# Altium schematic symbol library SamacSys.SchLib: 218 symbols (part 2 of 3)
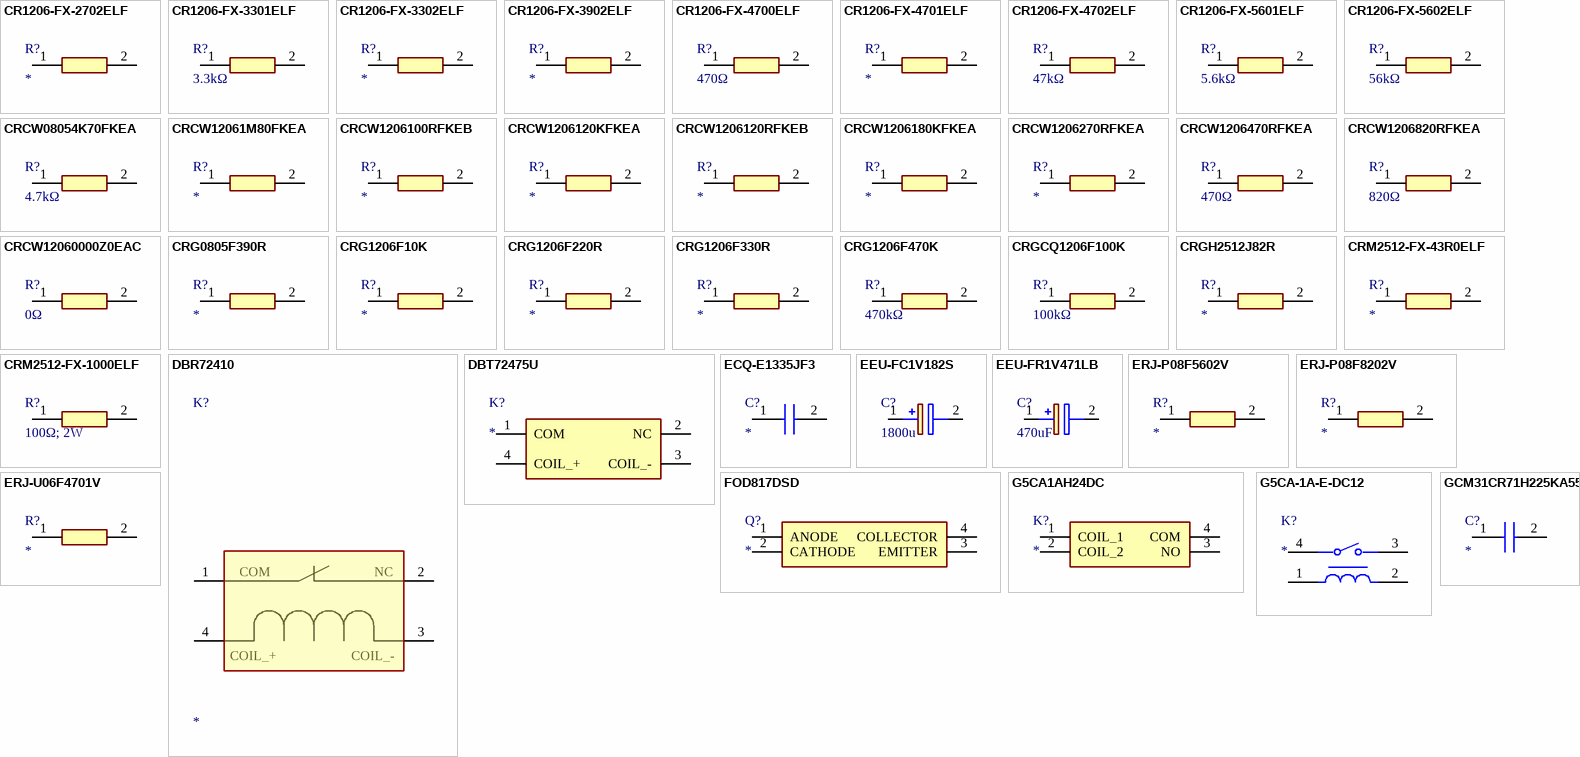
[diagram p7: symbols CR1206-FX-2702ELF to GCM31CR71H225KA55K]

## CRGCQ1206F100K
designator R?, comment 100kΩ
Resistor; Manufacturer_Name: TE Connectivity; Manufacturer_Part_Number: CRGCQ1206F100K; Power Rating: 250mW; Tolerance: 1%; Voltage Rating: 200V; Datasheet Link: https://www.te.com/commerce/DocumentDelivery/DDEController?Action=showdoc&DocId=Data+Sheet%7F1773204-3%7F1%7Fpdf%7FEnglish%7FENG_DS_1773204-3_1.pdf%7F5-2176339-2; Height: 0.65mm; Mouser Part Number: 279-CRGCQ1206F100K; Mouser Price/Stock: https://www.mouser.co.uk/ProductDetail/TE-Connectivity-Holsworthy/CRGCQ1206F100K?qs=wUXugUrL1qxXgwq7s1sDhw%3D%3D; Arrow Part Number: CRGCQ1206F100K; Arrow Price/Stock: https://www.arrow.com/en/products/crgcq1206f100k/te-connectivity; Resistance: 100kΩ; Case Code - in: 1206
footprint RESC3116X65N
pins: 1, 2

## CRGH2512J82R
designator R?
Resistor; Manufacturer_Name: TE Connectivity; Manufacturer_Part_Number: CRGH2512J82R; Datasheet Link: http://docs-europe.electrocomponents.com/webdocs/12d7/0900766b812d7379.pdf; Height: 0.65mm; Mouser Part Number: 279-CRGH2512J82R; Mouser Price/Stock: https://www.mouser.com/Search/Refine.aspx?Keyword=279-CRGH2512J82R
footprint RESC6432X65N
pins: 1, 2

## CRM2512-FX-43R0ELF
designator R?
Resistor; Manufacturer_Name: Bourns; Manufacturer_Part_Number: CRM2512-FX-43R0ELF; Datasheet Link: http://www.bourns.com/data/global/pdfs/CRM0805_1206_2010.pdf; Height: 0.8mm; Mouser Part Number: 652-CRM2512FX43R0ELF; Mouser Price/Stock: https://www.mouser.co.uk/ProductDetail/Bourns/CRM2512-FX-43R0ELF?qs=nU5SFIchPlP%252B4G7B%252BNU8%252Bw%3D%3D
footprint RESC6331X80N
pins: 1, 2

## CRM2512-FX-1000ELF
designator R?, comment 100Ω; 2W
Resistor; Manufacturer_Name: Bourns; Manufacturer_Part_Number: CRM2512-FX-1000ELF; Tolerance: 1%; Voltage Rating: 300V; Datasheet Link: http://www.bourns.com/data/global/pdfs/CRM0805_1206_2010.pdf; Height: 0.8mm; Mouser Part Number: 652-CRM2512FX1000ELF; Mouser Price/Stock: https://www.mouser.co.uk/ProductDetail/Bourns/CRM2512-FX-1000ELF?qs=9fn1gpisni7YMcynedKrEA%3D%3D; Arrow Part Number: CRM2512-FX-1000ELF; Arrow Price/Stock: https://www.arrow.com/en/products/crm2512-fx-1000elf/bourns?region=nac; Resistance: 100Ω; Power_Rating: 2W; Case Code - in: 2512
footprint RESC6331X80N
pins: 1, 2

## DBR72410
designator K?
Relay or Contactor; Manufacturer_Name: Sensata; Manufacturer_Part_Number: DBR72410; Datasheet Link: https://www.cynergy3.com/sites/default/files/cynergy3-d-v3.pdf; Height: 18.5mm; Mouser Part Number: 285-DBR72410; Mouser Price/Stock: https://www.mouser.co.uk/ProductDetail/Cynergy3/DBR72410?qs=OlC7AqGiEDn1L4fp4GHguQ%3D%3D
footprint DBR72410
pins: 1 COM, 2 NC, 3 COIL_-, 4 COIL_+

## DBT72475U
designator K?
Relay or Contactor; Manufacturer_Name: Sensata; Manufacturer_Part_Number: DBT72475U; Datasheet Link: https://www.cynergy3.com/sites/default/files/cynergy3-db-ul-v4.pdf; Height: 18.5mm; Mouser Part Number: 285-DBT72475U; Mouser Price/Stock: https://www.mouser.co.uk/ProductDetail/Cynergy3/DBT72475U?qs=OlC7AqGiEDkQmBWoi1%2FkQA%3D%3D
footprint DBT72475U
pins: 1 COM, 2 NC, 3 COIL_-, 4 COIL_+

## ECQ-E1335JF3
designator C?
Capacitor; Manufacturer_Name: Panasonic; Manufacturer_Part_Number: ECQ-E1335JF3; Datasheet Link: https://industrial.panasonic.com/cdbs/www-data/pdf/RDI0000/ABD0000C179.pdf; Height: 21.5mm; Mouser Part Number: 667-ECQ-E1335JF3; Mouser Price/Stock: https://www.mouser.co.uk/ProductDetail/Panasonic/ECQ-E1335JF3?qs=9ouE0kzBZ2ryz51caMA8VA%3D%3D
footprint ECQE1335JF3
pins: 1, 2

## EEU-FC1V182S
designator C?, comment 1800u
Capacitor Polarised; Manufacturer_Name: Panasonic; Manufacturer_Part_Number: EEU-FC1V182S; Description: Aluminium Electrolytic Capacitor; Voltage Rating: 35VDC; Tolerance: 20%; Datasheet Link: http://industrial.panasonic.com/cdbs/www-data/pdf/RDF0000/ABA0000C1209.pdf; Height: 22mm; Mouser Part Number: 667-EEU-FC1V182S; Mouser Price/Stock: https://www.mouser.co.uk/ProductDetail/Panasonic/EEU-FC1V182S?qs=JDbQaKT4BS1r%252B6D40EM7uw%3D%3D; Capacitance: 1800u
footprint CAPPRD750W85D1800H2200
pins: 1 +, 2 -

## EEU-FR1V471LB
designator C?, comment 470uF
Capacitor Polarised; Manufacturer_Name: Panasonic; Manufacturer_Part_Number: EEU-FR1V471LB; Voltage Rating: 35VDC; Datasheet Link: http://industrial.panasonic.com/cdbs/www-data/pdf/RDF0000/ABA0000C1259.pdf; Height: 22mm; Mouser Part Number: 667-EEU-FR1V471LB; Mouser Price/Stock: https://www.mouser.co.uk/ProductDetail/Panasonic/EEU-FR1V471LB?qs=n1SRcuzDZT29cYaqooxsEQ%3D%3D; Arrow Part Number: EEU-FR1V471LB; Arrow Price/Stock: https://www.arrow.com/en/products/eeu-fr1v471lb/panasonic?region=nac; Capacitance: 470uF
footprint CAPPRD350W65D800H2200
pins: 1 +, 2 -

## ERJ-P08F5602V
designator R?
Resistor; Manufacturer_Name: Panasonic; Manufacturer_Part_Number: ERJ-P08F5602V; Datasheet Link: http://industrial.panasonic.com/cdbs/www-data/pdf/RDO0000/AOA0000C331.pdf; Height: 0.7mm
footprint ERJP08_(1206)
pins: 1, 2

## ERJ-P08F8202V
designator R?
Resistor; Manufacturer_Name: Panasonic; Manufacturer_Part_Number: ERJ-P08F8202V; Datasheet Link: http://industrial.panasonic.com/cdbs/www-data/pdf/RDO0000/AOA0000C331.pdf; Height: 0.7mm; Mouser Part Number: 667-ERJ-P08F8202V; Mouser Price/Stock: https://www.mouser.co.uk/ProductDetail/Panasonic/ERJ-P08F8202V?qs=iIVTEDlrHA3Jr5uiD0YWhw%3D%3D; Arrow Part Number: ERJ-P08F8202V; Arrow Price/Stock: https://www.arrow.com/en/products/erj-p08f8202v/panasonic
footprint ERJP08_(1206)
pins: 1, 2

## ERJ-U06F4701V
designator R?
Resistor; Manufacturer_Name: Panasonic; Manufacturer_Part_Number: ERJ-U06F4701V; Datasheet Link: https://industrial.panasonic.com/cdbs/www-data/pdf/RDP0000/AOA0000C334.pdf; Height: 0.7mm
footprint ERJS06_U06_(0805)
pins: 1, 2

## FOD817DSD
designator Q?
Phototransistor; Manufacturer_Name: onsemi; Manufacturer_Part_Number: FOD817DSD; Datasheet Link: https://www.onsemi.com/pub/Collateral/FOD814-D.PDF; Height: 3.85mm; Mouser Part Number: 512-FOD817DSD; Mouser Price/Stock: https://www.mouser.co.uk/ProductDetail/onsemi-Fairchild/FOD817DSD?qs=VOMQJJE%252BBNlNO0XeTPK9HQ%3D%3D; Arrow Part Number: FOD817DSD; Arrow Price/Stock: https://www.arrow.com/en/products/fod817dsd/on-semiconductor?region=nac
footprint SOP254P1016X385-4N
pins: 1 ANODE, 2 CATHODE, 3 EMITTER, 4 COLLECTOR

## G5CA1AH24DC
designator K?
Relay or Contactor; Manufacturer_Name: Omron Electronics; Manufacturer_Part_Number: G5CA1AH24DC; Datasheet Link: https://componentsearchengine.com/Datasheets/2/G5CA1AH24DC.pdf; Height: 11mm; Arrow Part Number: G5CA1AH24DC; Arrow Price/Stock: https://www.arrow.com/en/products/g5ca1ah24dc/omron
footprint G5CA1AH24DC
pins: 1 COIL_1, 2 COIL_2, 3 NO, 4 COM

## G5CA-1A-E-DC12
designator K?
Relay or Contactor; Manufacturer_Name: Omron Electronics; Manufacturer_Part_Number: G5CA-1A-E-DC12; Datasheet Link: https://omronfs.omron.com/en_US/ecb/products/pdf/en-g5ca.pdf; Height: 11mm; Mouser Part Number: 653-G5CA-1A-E-DC12; Mouser Price/Stock: https://www.mouser.co.uk/ProductDetail/Omron-Electronics/G5CA-1A-E-DC12?qs=FGnoE8EzQws3vkoxHieQCg%3D%3D
footprint G5CA1AEDC24
pins: 1, 2, 3, 4

## GCM31CR71H225KA55K
designator C?
Capacitor; Manufacturer_Name: Murata Electronics; Manufacturer_Part_Number: GCM31CR71H225KA55K; Datasheet Link: https://psearch.en.murata.com/capacitor/product/GCM31CR71H225KA55%23.html; Height: 1.8mm; Mouser Part Number: 81-GCM31CR71H225KA5K; Mouser Price/Stock: https://www.mouser.co.uk/ProductDetail/Murata-Electronics/GCM31CR71H225KA55K?qs=Er06SXQpt%252B4Wl7IFhiz7sg%3D%3D; Arrow Part Number: GCM31CR71H225KA55K; Arrow Price/Stock: https://www.arrow.com/en/products/gcm31cr71h225ka55k/murata-manufacturing?region=nac
footprint CAPC3116X180N
pins: 1, 2

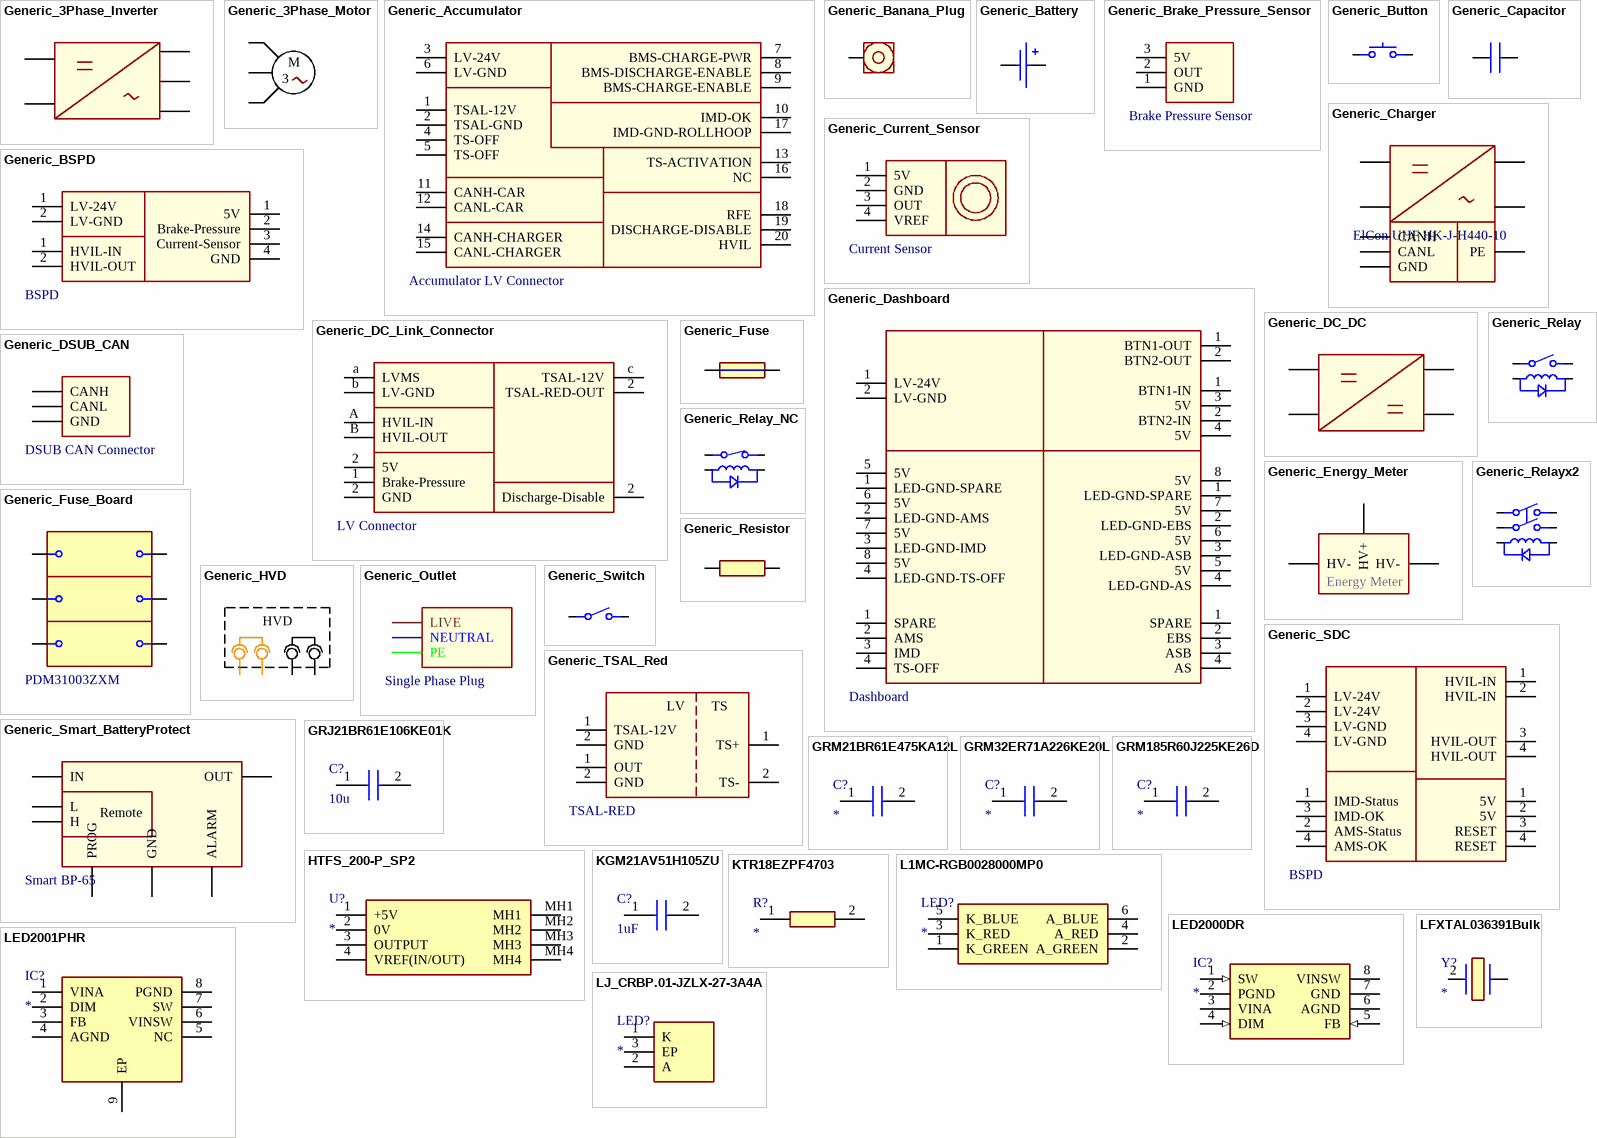
[diagram p3: symbols Generic_3Phase_Inverter to LJ_CRBP.01-JZLX-27-3A4A]

## Generic_3Phase_Inverter
designator *  (value not drawn)
pins: ?1, ?2, ?3, ?4, ?5

## Generic_3Phase_Motor
designator *  (value not drawn)
pins: ?1, ?2, ?3
text: M; 3

## Generic_Accumulator
designator *, comment Accumulator LV Connector
pins: 1 TSAL-12V, 2 TSAL-GND, 3 LV-24V, 4 TS-OFF, 5 TS-OFF, 6 LV-GND, 7 BMS-CHARGE-PWR, 8 BMS-DISCHARGE-ENABLE, 9 BMS-CHARGE-ENABLE, 10 IMD-OK, 11 CANH-CAR, 12 CANL-CAR, 13 TS-ACTIVATION, 14 CANH-CHARGER, 15 CANL-CHARGER, 16 NC, 17 IMD-GND-ROLLHOOP, 18 RFE, 19 DISCHARGE-DISABLE, 20 HVIL

## Generic_Banana_Plug
designator *, comment Banana-Plug  (value not drawn)
pins: *

## Generic_Battery
designator *  (value not drawn)
pins: ?1, ?2

## Generic_Brake_Pressure_Sensor
designator *, comment Brake Pressure Sensor
pins: 1 GND, 2 OUT, 3 5V

## Generic_BSPD
designator *, comment BSPD
pins: 1 5V, 1 HVIL-IN, 1 LV-24V, 2 Brake-Pressure, 2 HVIL-OUT, 2 LV-GND, 3 Current-Sensor, 4 GND

## Generic_Button
designator *  (value not drawn)
pins: ?1, ?2

## Generic_Capacitor
designator *  (value not drawn)
pins: ?1, ?2

## Generic_Charger
designator *, comment ElCon UHF HK-J-H440-10
pins: ?1, ?2, ?3, ?4, ?5 CANH, ?6 CANL, ?7 GND, ?8 PE

## Generic_Current_Sensor
designator *, comment Current Sensor
pins: 1 5V, 2 GND, 3 OUT, 4 VREF

## Generic_Dashboard
designator *, comment Dashboard
pins: 1 SPARE, 1 SPARE, 1 LED-GND-SPARE, 1 LED-GND-SPARE, 1 BTN1-IN, 1 LV-24V, 1 BTN1-OUT, 2 AMS, 2 EBS, 2 LED-GND-AMS, 2 LED-GND-EBS, 2 BTN2-IN, 2 LV-GND, 2 BTN2-OUT, 3 IMD, 3 ASB, 3 LED-GND-IMD, 3 LED-GND-ASB, 3 5V, 4 TS-OFF, 4 AS, 4 LED-GND-TS-OFF, 4 LED-GND-AS, 4 5V, 5 5V, 5 5V, 6 5V, 6 5V, 7 5V, 7 5V, 8 5V, 8 5V

## Generic_DC_DC
designator *  (value not drawn)
pins: ?1, ?2, ?3, ?4

## Generic_DC_Link_Connector
designator *, comment LV Connector
pins: 1 Brake-Pressure, 2 5V, 2 TSAL-RED-OUT, 2 Discharge-Disable, 2 GND, a LVMS, A HVIL-IN, b LV-GND, B HVIL-OUT, c TSAL-12V

## Generic_DSUB_CAN
designator *, comment DSUB CAN Connector
pins: ?1 CANH, ?2 GND, ?3 CANL

## Generic_Energy_Meter
designator *  (value not drawn)
pins: ?1 HV-, ?2 HV-, ?3 HV+
text: Energy Meter

## Generic_Fuse
designator *  (value not drawn)
pins: ?1, ?2

## Generic_Fuse_Board
designator *, comment PDM31003ZXM
pins: ?1, ?2, ?3, ?4, ?5, ?6

## Generic_HVD
designator *  (value not drawn)
pins: ?1, ?2, ?3, ?4
text: HVD

## Generic_Outlet
designator *, comment Single Phase Plug
pins: ?1 LIVE, ?2 PE, ?3 NEUTRAL

## Generic_Relay
designator *  (value not drawn)
pins: ?1, ?2, ?3, ?4

## Generic_Relay_NC
designator *  (value not drawn)
pins: ?1, ?2, ?3, ?4

## Generic_Relayx2
designator *  (value not drawn)
pins: ?1, ?2, ?3, ?4, ?5, ?6

## Generic_Resistor
designator *  (value not drawn)
pins: ?1, ?2

## Generic_SDC
designator *, comment BSPD
pins: 1 IMD-Status, 1 5V, 1 HVIL-IN, 1 LV-24V, 2 AMS-Status, 2 5V, 2 HVIL-IN, 2 LV-24V, 3 IMD-OK, 3 RESET, 3 HVIL-OUT, 3 LV-GND, 4 AMS-OK, 4 RESET, 4 HVIL-OUT, 4 LV-GND

## Generic_Smart_BatteryProtect
designator *, comment Smart BP-65
pins: ?1 IN, ?2 PROG, ?3 OUT, ?4 GND, ?5 ALARM, ?6 L, ?7 H
text: Remote

## Generic_Switch
designator *  (value not drawn)
pins: ?1, ?2

## Generic_TSAL_Red
designator *, comment TSAL-RED
pins: 1 TS+, 1 TSAL-12V, 1 OUT, 2 TS-, 2 GND, 2 GND
text: LV; TS

## GRJ21BR61E106KE01K
designator C?, comment 10u
Capacitor; Manufacturer_Name: Murata Electronics; Manufacturer_Part_Number: GRJ21BR61E106KE01K; Voltage Rating: 25VDC; Tolerance: 10%; Datasheet Link: https://search.murata.co.jp/Ceramy/image/img/A01X/G101/ENG/GRJ21BR61E106KE01-02A.pdf; Height: 1.45mm; Mouser Part Number: 81-GRJ21BR61E106KE1K; Mouser Price/Stock: https://www.mouser.co.uk/ProductDetail/Murata-Electronics/GRJ21BR61E106KE01K?qs=5aG0NVq1C4w0N7mxlKMI2A%3D%3D; Arrow Part Number: GRJ21BR61E106KE01K; Arrow Price/Stock: https://www.arrow.com/en/products/grj21br61e106ke01k/murata-manufacturing?region=nac; Capacitance: 10u; Case Code - in: 0805
footprint CAPC2012X145N
pins: 1, 2

## GRM21BR61E475KA12L
designator C?
Capacitor; Manufacturer_Name: Murata Electronics; Manufacturer_Part_Number: GRM21BR61E475KA12L; Datasheet Link: http://www.murata.com/~/media/webrenewal/support/library/catalog/products/capacitor/mlcc/c02e.pdf; Height: 1.45mm; Mouser Part Number: 81-GRM21BR61E475KA12; Mouser Price/Stock: https://www.mouser.co.uk/ProductDetail/Murata-Electronics/GRM21BR61E475KA12L?qs=0E7Ycue1i8A0OYXyRL9B%252Bw%3D%3D; Arrow Part Number: GRM21BR61E475KA12L; Arrow Price/Stock: https://www.arrow.com/en/products/grm21br61e475ka12l/murata-manufacturing
footprint CAPC2012X145N
pins: 1, 2

## GRM32ER71A226KE20L
designator C?
Capacitor; Manufacturer_Name: Murata Electronics; Manufacturer_Part_Number: GRM32ER71A226KE20L; Datasheet Link: http://psearch.en.murata.com/capacitor/product/GRM32ER71E226KE15%23.pdf; Height: 2.7mm; Mouser Part Number: 81-GRM32R71A226KE20L; Mouser Price/Stock: https://www.mouser.co.uk/ProductDetail/Murata-Electronics/GRM32ER71A226KE20L?qs=IjyrXs0Hof%252B8BiTJdBCHXw%3D%3D; Arrow Part Number: GRM32ER71A226KE20L; Arrow Price/Stock: https://www.arrow.com/en/products/grm32er71a226ke20l/murata-manufacturing?region=nac
footprint CAPC3225X270N
pins: 1, 2

## GRM185R60J225KE26D
designator C?
Capacitor; Manufacturer_Name: Murata Electronics; Manufacturer_Part_Number: GRM185R60J225KE26D; Datasheet Link: http://search.murata.co.jp/Ceramy/image/img/A01X/G101/ENG/GRM185R60J225KE26-01A.pdf; Height: 0.5mm; Mouser Part Number: 81-GRM185R60J225KE26; Mouser Price/Stock: https://www.mouser.co.uk/ProductDetail/Murata-Electronics/GRM185R60J225KE26D?qs=NwqPE0KKkjFbMAjoSSw5eQ%3D%3D; Arrow Part Number: GRM185R60J225KE26D; Arrow Price/Stock: https://www.arrow.com/en/products/grm185r60j225ke26d/murata-manufacturing
footprint CAPC1608X50N
pins: 1, 2

## HTFS_200-P_SP2
designator U?
Undefined or Miscellaneous; Manufacturer_Name: LEM; Manufacturer_Part_Number: HTFS 200-P/SP2; Datasheet Link: https://www.lem.com/sites/default/files/products_datasheets/htfs_200_800-p_sp2.pdf; Height: 17.2mm
footprint HTFS200PSP2
pins: 1 +5V, 2 0V, 3 OUTPUT, 4 VREF(IN/OUT), MH1, MH2, MH3, MH4

## KGM21AV51H105ZU
designator C?, comment 1uF
Capacitor; Manufacturer_Name: Kyocera AVX; Manufacturer_Part_Number: KGM21AV51H105ZU; Voltage Rating: 25VDC; Tolerance: 10%; Datasheet Link: https://www.mouser.com/datasheet/2/40/KGM_Y5V-3223189.pdf; Height: 1.45mm; Capacitance: 1uF; Case Code - in: 0805
footprint CAPC2012X145N
pins: 1, 2

## KTR18EZPF4703
designator R?
Resistor; Manufacturer_Name: ROHM Semiconductor; Manufacturer_Part_Number: KTR18EZPF4703; Datasheet Link: http://rohmfs.rohm.com/en/products/databook/datasheet/passive/resistor/chip_resistor/ktr.pdf; Height: 0.65mm; Mouser Part Number: 755-KTR18EZPF4703; Mouser Price/Stock: https://www.mouser.co.uk/ProductDetail/ROHM-Semiconductor/KTR18EZPF4703?qs=DyUWGjl%252BcVvRINWzBHCu3w%3D%3D
footprint RESC3216X65N
pins: 1, 2

## L1MC-RGB0028000MP0
designator LED?
LED; Manufacturer_Name: Lumileds; Manufacturer_Part_Number: L1MC-RGB0028000MP0; Datasheet Link: https://lumileds.com/wp-content/uploads/2022/03/DS388-luxeon-3528-rgb-datasheet.pdf; Height: 1.85mm; Mouser Part Number: 997-L1MCRGB00280MP; Mouser Price/Stock: https://www.mouser.co.uk/ProductDetail/Lumileds/L1MC-RGB0028000MP0?qs=Znm5pLBrcAJSGF05jr80lQ%3D%3D; Arrow Part Number: L1MC-RGB0028000MP0; Arrow Price/Stock: https://www.arrow.com/en/products/l1mc-rgb0028000mp0/lumileds?region=nac
footprint L1MCRGB0028000MP0
pins: 1 K_GREEN, 2 A_GREEN, 3 K_RED, 4 A_RED, 5 K_BLUE, 6 A_BLUE

## LED2000DR
designator IC?
Integrated Circuit; Manufacturer_Name: STMicroelectronics; Manufacturer_Part_Number: LED2000DR; Datasheet Link: https://componentsearchengine.com/Datasheets/2/LED2000DR.pdf; Height: 1.75mm; Mouser Part Number: 511-LED2000DR; Mouser Price/Stock: https://www.mouser.co.uk/ProductDetail/STMicroelectronics/LED2000DR?qs=19rwF8CI%252BwkZyr%252B18P3SIw%3D%3D; Arrow Part Number: LED2000DR; Arrow Price/Stock: https://www.arrow.com/en/products/led2000dr/stmicroelectronics?region=nac
footprint SOIC127P600X175-8N
pins: 1 SW (in), 2 PGND (power), 3 VINA (power), 4 DIM (in), 5 FB (in), 6 AGND (power), 7 GND (power), 8 VINSW (power)

## LED2001PHR
designator IC?
Integrated Circuit; Manufacturer_Name: STMicroelectronics; Manufacturer_Part_Number: LED2001PHR; Datasheet Link: http://www.st.com/web/en/resource/technical/document/datasheet/DM00079085.pdf; Height: 1.75mm; Mouser Part Number: 511-LED2001PHR; Mouser Price/Stock: https://www.mouser.co.uk/ProductDetail/STMicroelectronics/LED2001PHR?qs=WHlX%252B%252B9%2FRwCzdGFG7EvhjQ%3D%3D; Arrow Part Number: LED2001PHR; Arrow Price/Stock: https://www.arrow.com/en/products/led2001phr/stmicroelectronics?region=nac
footprint SOIC127P600X175-9N
pins: 1 VINA, 2 DIM, 3 FB, 4 AGND, 5 NC, 6 VINSW, 7 SW, 8 PGND, 9 EP

## LFXTAL036391Bulk
designator Y?
Crystal or Oscillator; Manufacturer_Name: IQD; Manufacturer_Part_Number: LFXTAL036391Bulk; Datasheet Link: https://componentsearchengine.com/Datasheets/1/LFXTAL036391Bulk.pdf; Height: 4.1mm; Mouser Part Number: 449-LFXTAL036391BULK; Mouser Price/Stock: https://www.mouser.co.uk/ProductDetail/IQD/LFXTAL036391Bulk?qs=e4%2FAndAAwgLVSm%2FKWOsYLg%3D%3D
footprint LFXTAL036391Bulk
pins: 2 CRYSTAL_2, ?1

## LJ_CRBP.01-JZLX-27-3A4A
designator LED?
LED; Manufacturer_Name: AMS OSRAM GROUP; Manufacturer_Part_Number: LJ CRBP.01-JZLX-27-3A4A; Datasheet Link: https://look.ams-osram.com/m/52bae5cfb8626588/original/LJ-CRBP-01.pdf; Height: 2.24mm; Mouser Part Number: 720-LJCRBP01JZA9260; Mouser Price/Stock: https://www.mouser.co.uk/ProductDetail/ams-OSRAM/LJ-CRBP.01-JZLX-27-3A4A?qs=vvQtp7zwQdO%252B1A3QlQcixg%3D%3D
footprint LJCRBP01JZLX273A4A
pins: 1 K, 2 A, 3 EP

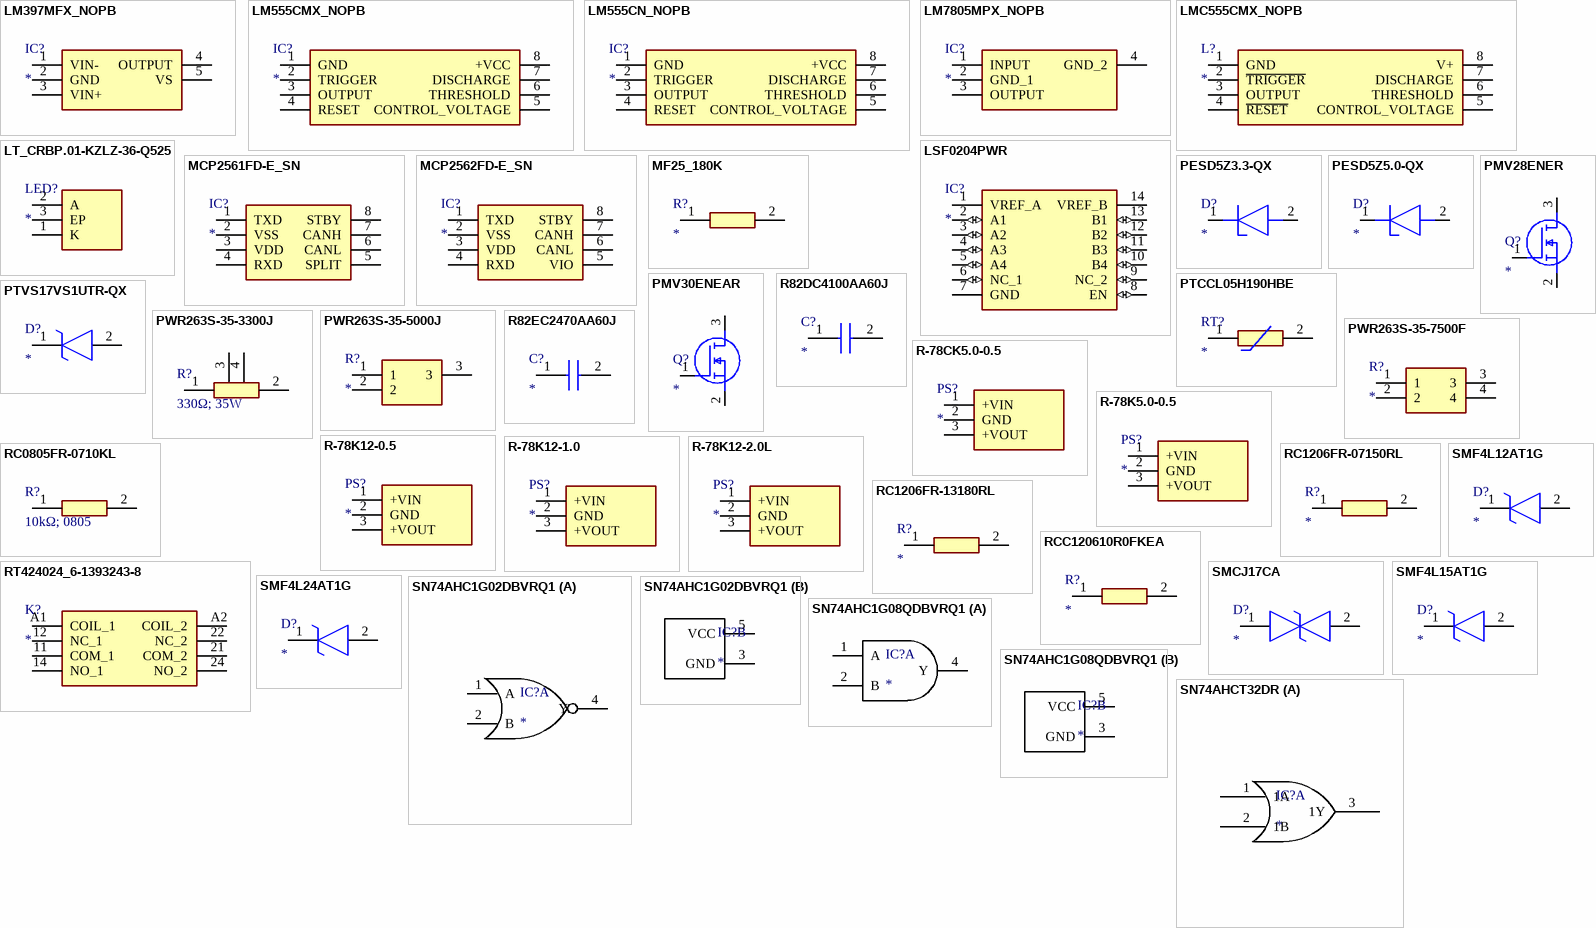
[diagram p4: symbols LM397MFX_NOPB to SN74AHCT32DR]

## LM397MFX_NOPB
designator IC?
Integrated Circuit; Manufacturer_Name: Texas Instruments; Manufacturer_Part_Number: LM397MFX/NOPB; Datasheet Link: http://www.ti.com/lit/gpn/lm397; Height: 1.45mm; Mouser Part Number: 926-LM397MFX/NOPB; Mouser Price/Stock: https://www.mouser.co.uk/ProductDetail/Texas-Instruments/LM397MFX-NOPB?qs=QbsRYf82W3H8K8J%252BcL5lDg%3D%3D; Arrow Part Number: LM397MFX/NOPB; Arrow Price/Stock: https://www.arrow.com/en/products/lm397mfxnopb/texas-instruments?region=nac
footprint SOT95P280X145-5N
pins: 1 VIN-, 2 GND, 3 VIN+, 4 OUTPUT, 5 VS

## LM555CMX_NOPB
designator IC?
Integrated Circuit; Manufacturer_Name: Texas Instruments; Manufacturer_Part_Number: LM555CMX/NOPB; Datasheet Link: http://www.ti.com/lit/ds/symlink/lm555.pdf; Height: 1.75mm; Mouser Part Number: 926-LM555CMX/NOPB; Mouser Price/Stock: https://www.mouser.co.uk/ProductDetail/Texas-Instruments/LM555CMX-NOPB?qs=QbsRYf82W3GHnQuoL%2FmIoA%3D%3D; Arrow Part Number: LM555CMX/NOPB; Arrow Price/Stock: https://www.arrow.com/en/products/lm555cmxnopb/texas-instruments?region=nac
footprint SOIC127P600X175-8N
pins: 1 GND, 2 TRIGGER, 3 OUTPUT, 4 RESET, 5 CONTROL_VOLTAGE, 6 THRESHOLD, 7 DISCHARGE, 8 +VCC

## LM555CN_NOPB
designator IC?
Integrated Circuit; Manufacturer_Name: Texas Instruments; Manufacturer_Part_Number: LM555CN/NOPB; Datasheet Link: https://datasheet.datasheetarchive.com/originals/distributors/Datasheets-SFU2/DSASFU100035550.pdf; Height: 5.08mm; Mouser Part Number: 926-LM555CN/NOPB; Mouser Price/Stock: https://www.mouser.co.uk/ProductDetail/Texas-Instruments/LM555CN-NOPB?qs=QbsRYf82W3GjZpQL%2FakZOg%3D%3D; Arrow Part Number: LM555CN/NOPB; Arrow Price/Stock: https://www.arrow.com/en/products/lm555cnnopb/texas-instruments?region=nac
footprint DIP794W53P254L959H508Q8N
pins: 1 GND, 2 TRIGGER, 3 OUTPUT, 4 RESET, 5 CONTROL_VOLTAGE, 6 THRESHOLD, 7 DISCHARGE, 8 +VCC

## LM7805MPX_NOPB
designator IC?
Integrated Circuit; Manufacturer_Name: Texas Instruments; Manufacturer_Part_Number: LM7805MPX/NOPB; Datasheet Link: https://www.arrow.com/en/products/lm7805mpxnopb/texas-instruments; Height: 1.8mm; Mouser Part Number: 595-LM7805MPX/NOPB; Mouser Price/Stock: https://www.mouser.co.uk/ProductDetail/Texas-Instruments/LM7805MPX-NOPB?qs=gO6GG99qvRCSwIVAoVKHPw%3D%3D; Arrow Part Number: LM7805MPX/NOPB; Arrow Price/Stock: https://www.arrow.com/en/products/lm7805mpxnopb/texas-instruments?region=nac
footprint SOT230P700X180-4N
pins: 1 INPUT, 2 GND_1, 3 OUTPUT, 4 GND_2

## LMC555CMX_NOPB
designator L?
Inductor; Manufacturer_Name: Texas Instruments; Manufacturer_Part_Number: LMC555CMX/NOPB; Datasheet Link: http://www.ti.com/lit/gpn/lmc555; Height: 1.75mm; Mouser Part Number: 926-LMC555CMX/NOPB; Mouser Price/Stock: https://www.mouser.co.uk/ProductDetail/Texas-Instruments/LMC555CMX-NOPB?qs=QbsRYf82W3EweY0jkZCQRw%3D%3D; Arrow Part Number: LMC555CMX/NOPB; Arrow Price/Stock: https://www.arrow.com/en/products/lmc555cmxnopb/texas-instruments?region=nac
footprint SOIC127P600X175-8N
pins: 1 GND (power), 2 ~{TRIGGER}, 3 OUTPUT, 4 ~{RESET}, 5 CONTROL_VOLTAGE, 6 THRESHOLD, 7 DISCHARGE, 8 V+ (power)

## LSF0204PWR
designator IC?
Integrated Circuit; Manufacturer_Name: Texas Instruments; Manufacturer_Part_Number: LSF0204PWR; Datasheet Link: http://www.ti.com/lit/gpn/lsf0204; Height: 1.2mm; Mouser Part Number: 595-LSF0204PWR; Mouser Price/Stock: https://www.mouser.co.uk/ProductDetail/Texas-Instruments/LSF0204PWR?qs=m%2F7bTylgptck0MkFZrWcVg%3D%3D; Arrow Part Number: LSF0204PWR; Arrow Price/Stock: https://www.arrow.com/en/products/lsf0204pwr/texas-instruments?region=nac
footprint SOP65P640X120-14N
pins: 1 VREF_A (power), 2 A1 (io), 3 A2 (io), 4 A3 (io), 5 A4 (io), 6 NC_1 (io), 7 GND (power), 8 EN (io), 9 NC_2 (io), 10 B4 (io), 11 B3 (io), 12 B2 (io), 13 B1 (io), 14 VREF_B (power)

## LT_CRBP.01-KZLZ-36-Q525
designator LED?
LED; Manufacturer_Name: AMS OSRAM GROUP; Manufacturer_Part_Number: LT CRBP.01-KZLZ-36-Q525; Datasheet Link: https://dammedia.osram.info/media/resource/hires/osram-dam-16811693/LT%20CRBP.01_EN.pdf; Height: 2.14mm; Mouser Part Number: 720-LTCRBP01KZA9257; Mouser Price/Stock: https://www.mouser.co.uk/ProductDetail/ams-OSRAM/LT-CRBP.01-KZLZ-36-Q525?qs=vvQtp7zwQdPcep%252BoQtfHxA%3D%3D
footprint LTCRBP01KZLZ36Q525
pins: 1 K, 2 A, 3 EP

## MCP2561FD-E_SN
designator IC?
Integrated Circuit; Manufacturer_Name: Microchip; Manufacturer_Part_Number: MCP2561FD-E/SN; Datasheet Link: http://ww1.microchip.com/downloads/en/DeviceDoc/20005284A.pdf; Height: 1.75mm; Mouser Part Number: 579-MCP2561FD-E/SN; Mouser Price/Stock: https://www.mouser.co.uk/ProductDetail/Microchip-Technology-Atmel/MCP2561FD-E-SN?qs=YlpJWyuQ3POCoip84joIDQ%3D%3D; Arrow Part Number: MCP2561FD-E/SN; Arrow Price/Stock: https://www.arrow.com/en/products/mcp2561fd-esn/microchip-technology?region=nac
footprint SOIC127P600X175-8N
pins: 1 TXD, 2 VSS, 3 VDD, 4 RXD, 5 SPLIT, 6 CANL, 7 CANH, 8 STBY

## MCP2562FD-E_SN
designator IC?
Integrated Circuit; Manufacturer_Name: Microchip; Manufacturer_Part_Number: MCP2562FD-E/SN; Datasheet Link: http://uk.rs-online.com/web/p/products/8243123; Height: 1.75mm; Mouser Part Number: 579-MCP2562FD-E/SN; Mouser Price/Stock: https://www.mouser.co.uk/ProductDetail/Microchip-Technology/MCP2562FD-E-SN?qs=YlpJWyuQ3POBNBSLSm7%2F1w%3D%3D; Arrow Part Number: MCP2562FD-E/SN; Arrow Price/Stock: https://www.arrow.com/en/products/mcp2562fd-esn/microchip-technology?region=nac
footprint SOIC127P600X175-8N
pins: 1 TXD, 2 VSS, 3 VDD, 4 RXD, 5 VIO, 6 CANL, 7 CANH, 8 STBY

## MF25_180K
designator R?
Resistor; Manufacturer_Name: Multicomp Pro; Manufacturer_Part_Number: MF25 180K; Datasheet Link: http://www.farnell.com/datasheets/2860633.pdf?_ga=2.16472496.767732073.1589363713-1299647078.1571999149&_gac=1.26297039.1589379876.CjwKCAjwte71BRBCEiwAU_V9h1B38U6Z1wYPCwov9fBcT1fJitE5ypyTEr3Sqd2IpURgqvZIWBL8oRoC57oQAvD_BwE
footprint RESAD1680W59L680D250
pins: 1, 2

## PESD5Z3.3-QX
designator D?
Diode ESD (Uni-directional); Manufacturer_Name: Nexperia; Manufacturer_Part_Number: PESD5Z3.3-QX; Datasheet Link: https://assets.nexperia.com/documents/data-sheet/PESD5Z3_3-Q.pdf; Height: 0.65mm; Mouser Part Number: 771-PESD5Z3.3-QX; Mouser Price/Stock: https://www.mouser.co.uk/ProductDetail/Nexperia/PESD5Z3.3-QX?qs=rQFj71Wb1eV7EmnjkkDjYg%3D%3D; Arrow Part Number: PESD5Z3.3-QX; Arrow Price/Stock: null?region=nac
footprint SODFL1608X65N
pins: 1 K, 2 A

## PESD5Z5.0-QX
designator D?
Diode ESD (Uni-directional); Manufacturer_Name: Nexperia; Manufacturer_Part_Number: PESD5Z5.0-QX; Datasheet Link: https://assets.nexperia.com/documents/data-sheet/PESD5Z5_0-Q.pdf; Height: 0.65mm; Mouser Part Number: 771-PESD5Z5.0-QX; Mouser Price/Stock: https://www.mouser.co.uk/ProductDetail/Nexperia/PESD5Z5.0-QX?qs=rQFj71Wb1eWZ1dY%2FkXwJ8g%3D%3D
footprint SODFL1608X65N
pins: 1 K, 2 A

## PMV28ENER
designator Q?
MOSFET (N-Channel); Manufacturer_Name: Nexperia; Manufacturer_Part_Number: PMV28ENER; Datasheet Link: https://assets.nexperia.com/documents/data-sheet/PMV28ENE.pdf; Height: 1.1mm; Mouser Part Number: 771-PMV28ENER; Mouser Price/Stock: https://www.mouser.co.uk/ProductDetail/Nexperia/PMV28ENER?qs=Li%252BoUPsLEntkFwTd0Kg9FA%3D%3D
footprint SOT95P230X110-3N
pins: 1 G, 2 S, 3 D

## PMV30ENEAR
designator Q?
MOSFET (N-Channel); Manufacturer_Name: Nexperia; Manufacturer_Part_Number: PMV30ENEAR; Datasheet Link: https://assets.nexperia.com/documents/data-sheet/PMV30ENEA.pdf; Height: 1.1mm
footprint SOT95P230X110-3N
pins: 1 G, 2 S, 3 D

## PTCCL05H190HBE
designator RT?
Thermistor; Manufacturer_Name: Vishay; Manufacturer_Part_Number: PTCCL05H190HBE; Datasheet Link: http://www.vishay.com/docs/29087/ptccl265vseries.pdf; Height: 10mm; Mouser Part Number: 594-2381-660-51993; Mouser Price/Stock: https://www.mouser.co.uk/ProductDetail/Vishay-BC-Components/PTCCL05H190HBE?qs=ToXKr0v%252BmKnt9EBRDZKHZQ%3D%3D; Arrow Part Number: PTCCL05H190HBE; Arrow Price/Stock: https://www.arrow.com/en/products/ptccl05h190hbe/vishay
footprint PTCCL05H190HBE
pins: 1, 2

## PTVS17VS1UTR-QX
designator D?
TVS Diode (Uni-directional); Manufacturer_Name: Nexperia; Manufacturer_Part_Number: PTVS17VS1UTR-QX; Polarity: Unidirectional; Working Voltage: 17V; Clamping Voltage: 27.6V; Breakdown Voltage: 20.9V; Pulse Power: 400W; Datasheet Link: https://assets.nexperia.com/documents/data-sheet/PTVSXS1UTR-Q_SER.pdf; Height: 1.1mm
footprint SODFL3517X110N
pins: 1 K, 2 A

## PWR263S-35-3300J
designator R?, comment 330Ω; 35W
Resistor; Manufacturer_Name: Bourns; Manufacturer_Part_Number: PWR263S-35-3300J; Tolerance: 5%; Voltage Rating: 250V; Datasheet Link: https://www.bourns.com/docs/product-datasheets/pwr263s-35.pdf?sfvrsn=e7400d18_8; Height: 4.5mm; Arrow Part Number: PWR263S-35-3300J; Arrow Price/Stock: https://www.arrow.com/en/products/pwr263s-35-3300j/bourns?region=nac; Resistance: 330Ω; Power Rating: 35W; Case Code - in: (D2PAK)
footprint PWR263S353300J
pins: 1, 2, 3, 4

## PWR263S-35-5000J
designator R?
Resistor; Manufacturer_Name: Bourns; Manufacturer_Part_Number: PWR263S-35-5000J; Datasheet Link: https://www.bourns.com/data/global/pdfs/PWR263S-35.pdf; Mouser Part Number: 652-PWR263S-35-5000J; Mouser Price/Stock: https://www.mouser.com/Search/Refine.aspx?Keyword=652-PWR263S-35-5000J; Arrow Part Number: PWR263S-35-5000J; Arrow Price/Stock: https://www.arrow.com/en/products/pwr263s-35-5000j/bourns
footprint PWR263S-35
pins: 1, 2, 3

## PWR263S-35-7500F
designator R?
Resistor; Manufacturer_Name: Bourns; Manufacturer_Part_Number: PWR263S-35-7500F; Datasheet Link: https://componentsearchengine.com/Datasheets/2/PWR263S-35-1001F.pdf; Height: 4.5mm; Mouser Part Number: 652-PWR263S-35-7500F; Mouser Price/Stock: https://www.mouser.co.uk/ProductDetail/Bourns/PWR263S-35-7500F?qs=lfEcNZWccVmm5vGiYcWOug%3D%3D; Arrow Part Number: PWR263S-35-7500F; Arrow Price/Stock: https://www.arrow.com/en/products/pwr263s-35-7500f/bourns?region=nac
footprint PWR263S351001F
pins: 1, 2, 3, 4

## R82DC4100AA60J
designator C?
Capacitor; Manufacturer_Name: KEMET; Manufacturer_Part_Number: R82DC4100AA60J; Datasheet Link: https://content.kemet.com/datasheets/KEM_F3101_R82.pdf; Height: 10.1mm; Mouser Part Number: 80-R82DC4100AA60J; Mouser Price/Stock: https://www.mouser.co.uk/ProductDetail/KEMET/R82DC4100AA60J?qs=Jv4FAWB%252B0HYVXjrTybqNAQ%3D%3D; Arrow Part Number: R82DC4100AA60J; Arrow Price/Stock: https://www.arrow.com/en/products/r82dc4100aa60j/kemet-corporation?region=europe
footprint R82DC4100AA60J
pins: 1, 2

## R82EC2470AA60J
designator C?
Capacitor; Manufacturer_Name: KEMET; Manufacturer_Part_Number: R82EC2470AA60J; Datasheet Link: https://content.kemet.com/datasheets/KEM_F3101_R82.pdf; Mouser Part Number: 80-R82EC2470AA60J; Mouser Price/Stock: https://www.mouser.co.uk/ProductDetail/KEMET/R82EC2470AA60J/?qs=Jv4FAWB%252B0HZ7iV08qIayRQ%3D%3D; Arrow Part Number: R82EC2470AA60J; Arrow Price/Stock: https://www.arrow.com/en/products/r82ec2470aa60j/kemet-corporation?region=nac
footprint R82(7.2X2.5)
pins: 1, 2

## R-78CK5.0-0.5
designator PS?
Power Supply; Manufacturer_Name: RECOM Power; Manufacturer_Part_Number: R-78CK5.0-0.5; Datasheet Link: https://recom-power.com/pdf/Innoline/R-78CK-0.5.pdf; Height: 10.7mm
footprint R78CK5005
pins: 1 +VIN, 2 GND, 3 +VOUT

## R-78K5.0-0.5
designator PS?
Power Supply; Manufacturer_Name: RECOM Power; Manufacturer_Part_Number: R-78K5.0-0.5; Datasheet Link: https://recom-power.com/pdf/Innoline/R-78K-0.5.pdf; Height: 10.7mm; Mouser Part Number: 919-R-78K5.0-0.5; Mouser Price/Stock: https://www.mouser.co.uk/ProductDetail/RECOM-Power/R-78K5.0-0.5?qs=Jm2GQyTW%2Fbjx2N4NpeyrMA%3D%3D; Arrow Part Number: R-78K5.0-0.5; Arrow Price/Stock: https://www.arrow.com/en/products/r-78k5.0-0.5/recom-power?region=nac
footprint R78K5005
pins: 1 +VIN, 2 GND, 3 +VOUT

## R-78K12-0.5
designator PS?
Power Supply; Manufacturer_Name: RECOM Power; Manufacturer_Part_Number: R-78K12-0.5; Datasheet Link: https://recom-power.com/pdf/Innoline/R-78K-0.5.pdf; Height: 10.7mm; Mouser Part Number: 919-R-78K12-0.5; Mouser Price/Stock: https://www.mouser.co.uk/ProductDetail/RECOM-Power/R-78K12-0.5?qs=Jm2GQyTW%2Fbj0dmigqWk3HA%3D%3D; Arrow Part Number: R-78K12-0.5; Arrow Price/Stock: https://www.arrow.com/en/products/r-78k12-0.5/recom-power?region=europe
footprint R78K1205
pins: 1 +VIN, 2 GND, 3 +VOUT

## R-78K12-1.0
designator PS?
Power Supply; Manufacturer_Name: RECOM Power; Manufacturer_Part_Number: R-78K12-1.0; Datasheet Link: https://recom-power.com/pdf/Innoline/R-78K-1.0.pdf; Height: 10.7mm
footprint R78K1210
pins: 1 +VIN, 2 GND, 3 +VOUT

## R-78K12-2.0L
designator PS?
Power Supply; Manufacturer_Name: RECOM Power; Manufacturer_Part_Number: R-78K12-2.0L; Datasheet Link: https://recom-power.com/pdf/Innoline/R-78K-2.0.pdf; Height: 9mm; Mouser Part Number: 919-R-78K12-2.0L; Mouser Price/Stock: https://www.mouser.co.uk/ProductDetail/RECOM-Power/R-78K12-2.0L?qs=Imq1NPwxi7418PHVMMWMRQ%3D%3D; Arrow Part Number: R-78K12-2.0L; Arrow Price/Stock: https://www.arrow.com/en/products/r-78k12-2.0l/recom-power?region=europe
footprint R78K1220L
pins: 1 +VIN, 2 GND, 3 +VOUT

## RC0805FR-0710KL
designator R?, comment 10kΩ; 0805
Resistor; Manufacturer_Name: YAGEO; Manufacturer_Part_Number: RC0805FR-0710KL; Power Rating: 125mW; Tolerance: 1%; Voltage Rating: 150V; Datasheet Link: https://www.yageo.com/upload/media/product/productsearch/datasheet/rchip/PYu-RC_Group_51_RoHS_L_11.pdf; Height: 0.6mm; Mouser Part Number: 603-RC0805FR-0710KL; Mouser Price/Stock: https://www.mouser.co.uk/ProductDetail/YAGEO/RC0805FR-0710KL?qs=7bY8808IzHq6vrU3BeiiYw%3D%3D; Arrow Part Number: RC0805FR-0710KL; Arrow Price/Stock: https://www.arrow.com/en/products/rc0805fr-0710kl/yageo?utm_currency=USD&region=europe; Resistance: 10kΩ; Case Code - in: 0805
footprint RESC2012X60N
pins: 1, 2

## RC1206FR-07150RL
designator R?
Resistor; Manufacturer_Name: KEMET; Manufacturer_Part_Number: RC1206FR-07150RL; Datasheet Link: https://www.sos.sk/productdata/35/10/4/35104/RC1206.pdf; Height: 0.65mm; Mouser Part Number: 603-RC1206FR-07150RL; Mouser Price/Stock: https://www.mouser.co.uk/ProductDetail/Yageo/RC1206FR-07150RL?qs=UiDTtNFP6s9QSdY5vdxcCg%3D%3D; Arrow Part Number: RC1206FR-07150RL; Arrow Price/Stock: https://www.arrow.com/en/products/rc1206fr-07150rl/yageo
footprint RESC3116X65N
pins: 1, 2

## RC1206FR-13180RL
designator R?
Resistor; Manufacturer_Name: KEMET; Manufacturer_Part_Number: RC1206FR-13180RL; Datasheet Link: https://www.sos.sk/productdata/35/10/4/35104/RC1206.pdf; Height: 0.65mm; Mouser Part Number: 603-RC1206FR-13180RL; Mouser Price/Stock: https://www.mouser.co.uk/ProductDetail/YAGEO/RC1206FR-13180RL?qs=Rv6LVDxB0ZpP3tgo7F4IVA%3D%3D
footprint RESC3116X65N
pins: 1, 2

## RCC120610R0FKEA
designator R?
Resistor; Manufacturer_Name: Vishay; Manufacturer_Part_Number: RCC120610R0FKEA; Datasheet Link: https://www.vishay.com/docs/20066/rcce3.pdf; Height: 0.6mm; Mouser Part Number: 71-RCC120610R0FKEA; Mouser Price/Stock: https://www.mouser.co.uk/ProductDetail/Vishay-Dale/RCC120610R0FKEA?qs=IS%252B4QmGtzzrAYK7R6JHMnw%3D%3D; Arrow Part Number: RCC120610R0FKEA; Arrow Price/Stock: https://www.arrow.com/en/products/rcc120610r0fkea/vishay?region=nac
footprint RCC1206_e3
pins: 1, 2

## RT424024_6-1393243-8
designator K?
Relay or Contactor; Manufacturer_Name: TE Connectivity; Manufacturer_Part_Number: RT424024 6-1393243-8; Datasheet Link: http://uk.rs-online.com/web/p/products/1355119; Height: 15.7mm
footprint RT424024613932438
pins: 11 COM_1, 12 NC_1, 14 NO_1, 21 COM_2, 22 NC_2, 24 NO_2, A1 COIL_1, A2 COIL_2

## SMCJ17CA
designator D?
TVS Diode (Bi-directional); Manufacturer_Name: Bourns; Manufacturer_Part_Number: SMCJ17CA; Polarity: Bidirectional; Working Voltage: 17V; Clamping Voltage: 27.6V; Breakdown Voltage: 18.9V; Pulsed Power: 1.5kW; Datasheet Link: https://my.mouser.com/datasheet/2/54/SMCJ-778393.pdf; Height: 2.62mm; Mouser Part Number: 652-SMCJ17CA; Mouser Price/Stock: https://www.mouser.co.uk/ProductDetail/Bourns/SMCJ17CA?qs=NMatY7cgvvYPR0OCI8t19Q%3D%3D; Arrow Part Number: SMCJ17CA; Arrow Price/Stock: https://www.arrow.com/en/products/smcj17ca/bourns?region=nac
footprint DIONM7959X262N
pins: 1, 2

## SMF4L12AT1G
designator D?
TVS Diode (Uni-directional); Manufacturer_Name: LITTELFUSE; Manufacturer_Part_Number: SMF4L12AT1G; Datasheet Link: https://www.littelfuse.com/media?resourcetype=datasheets&itemid=f093622a-2591-4e70-85e6-32321d2f8c5a&filename=tvs-diode-smf4l-t1g-datasheet; Height: 0.98mm
footprint SODFL3619X98N
pins: 1 K, 2 A

## SMF4L15AT1G
designator D?
TVS Diode (Uni-directional); Manufacturer_Name: LITTELFUSE; Manufacturer_Part_Number: SMF4L15AT1G; Datasheet Link: https://www.littelfuse.com/media?resourcetype=datasheets&itemid=f093622a-2591-4e70-85e6-32321d2f8c5a&filename=tvs-diode-smf4l-t1g-datasheet; Height: 0.98mm; Mouser Part Number: 576-SMF4L15AT1G; Mouser Price/Stock: https://www.mouser.co.uk/ProductDetail/Littelfuse/SMF4L15AT1G?qs=OcgtsXO%252B3guyJN0Tm1bABg%3D%3D
footprint SODFL3619X98N
pins: 1 K, 2 A

## SMF4L24AT1G
designator D?
TVS Diode (Uni-directional); Manufacturer_Name: LITTELFUSE; Manufacturer_Part_Number: SMF4L24AT1G; Datasheet Link: https://www.littelfuse.com/media?resourcetype=datasheets&itemid=f093622a-2591-4e70-85e6-32321d2f8c5a&filename=tvs-diode-smf4l-t1g-datasheet; Height: 0.98mm
footprint SODFL3619X98N
pins: 1 K, 2 A

## SN74AHC1G02DBVRQ1
designator IC?
Integrated Circuit; Manufacturer_Name: Texas Instruments; Manufacturer_Part_Number: SN74AHC1G02DBVRQ1; Datasheet Link: https://www.ti.com/lit/ds/symlink/sn74ahc1g02-q1.pdf?ts=1701359204486&ref_url=https%253A%252F%252Fwww.ti.com%252Fsitesearch%252Fen-us%252Fdocs%252Funiversalsearch.tsp%253FlangPref%253Den-US%2526searchTerm%253DSN74AHC1G02DBVRQ1%2526nr%253D2; Height: 1.45mm; Mouser Part Number: 595-SN74AHC1G02DBVQ1; Mouser Price/Stock: https://www.mouser.co.uk/ProductDetail/Texas-Instruments/SN74AHC1G02DBVRQ1?qs=ST9lo4GX8V19ahCGS4E5ZA%3D%3D; Arrow Part Number: SN74AHC1G02DBVRQ1; Arrow Price/Stock: https://www.arrow.com/en/products/sn74ahc1g02dbvrq1/texas-instruments?utm_currency=USD&region=nac
footprint SOT95P280X145-5N
part A pins: 1 A, 2 B, 4 Y
part B pins: 3 GND, 5 VCC

## SN74AHC1G08QDBVRQ1
designator IC?
Integrated Circuit; Manufacturer_Name: Texas Instruments; Manufacturer_Part_Number: SN74AHC1G08QDBVRQ1; Datasheet Link: http://www.ti.com/lit/gpn/sn74ahc1g08-q1; Height: 1.45mm; Mouser Part Number: 595-AHC1G08QDBVRQ1; Mouser Price/Stock: https://www.mouser.co.uk/ProductDetail/Texas-Instruments/SN74AHC1G08QDBVRQ1?qs=fSCvMSq5ISUSXpUWBEQXOg%3D%3D; Arrow Part Number: SN74AHC1G08QDBVRQ1; Arrow Price/Stock: https://www.arrow.com/en/products/sn74ahc1g08qdbvrq1/texas-instruments?region=nac
footprint SOT95P280X145-5N
part A pins: 1 A, 2 B, 4 Y
part B pins: 3 GND, 5 VCC (power)

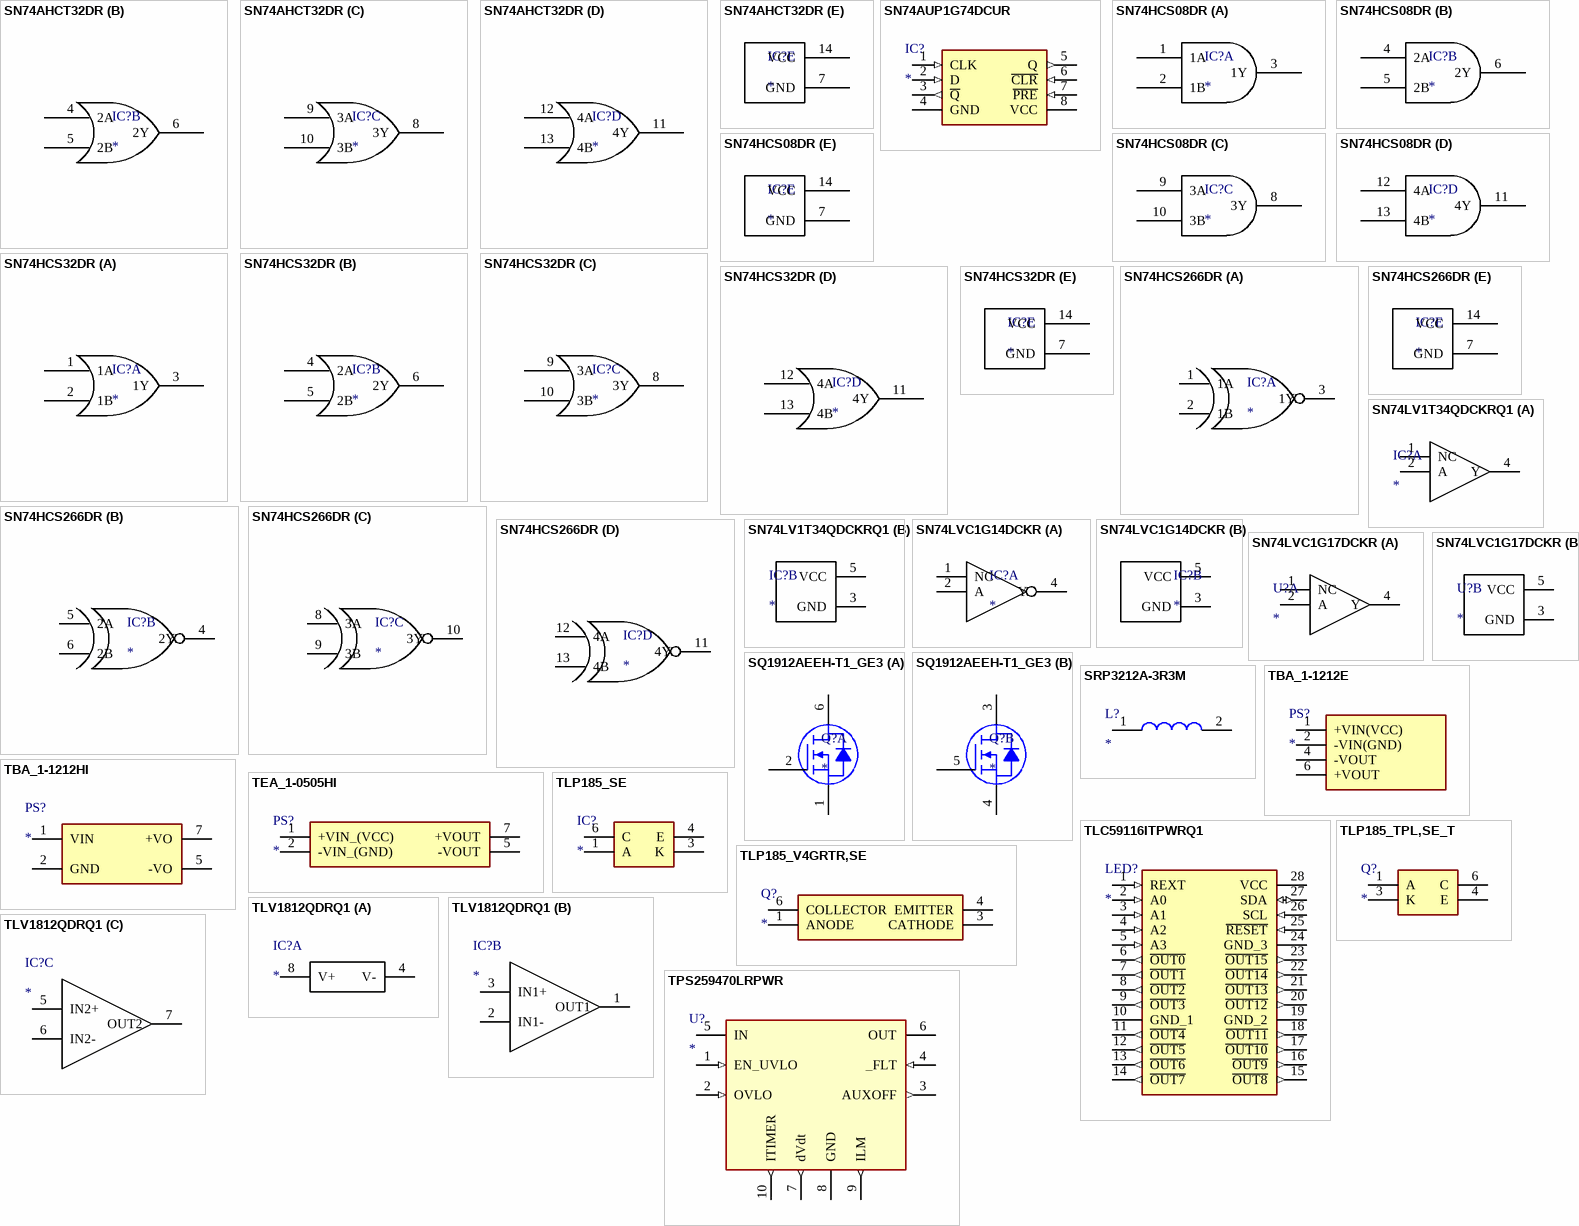
[diagram p5: symbols SN74AHCT32DR to TPS259470LRPWR]

## SN74AHCT32DR
designator IC?
Integrated Circuit; Manufacturer_Name: Texas Instruments; Manufacturer_Part_Number: SN74AHCT32DR; Datasheet Link: http://www.ti.com/lit/gpn/sn74ahct32; Height: 1.75mm; Mouser Part Number: 595-SN74AHCT32DR; Mouser Price/Stock: https://www.mouser.co.uk/ProductDetail/Texas-Instruments/SN74AHCT32DR?qs=FetendrIl6ulPshsaj9hIQ%3D%3D; Arrow Part Number: SN74AHCT32DR; Arrow Price/Stock: https://www.arrow.com/en/products/sn74ahct32dr/texas-instruments
footprint SOIC127P600X175-14N
part A pins: 1 1A, 2 1B, 3 1Y
part B pins: 4 2A, 5 2B, 6 2Y
part C pins: 8 3Y, 9 3A, 10 3B
part D pins: 11 4Y, 12 4A, 13 4B
part E pins: 7 GND, 14 VCC

## SN74AUP1G74DCUR
designator IC?
Integrated Circuit; Manufacturer_Name: Texas Instruments; Manufacturer_Part_Number: SN74AUP1G74DCUR; Datasheet Link: http://www.ti.com/lit/gpn/sn74aup1g74; Height: 0.9mm; Mouser Part Number: 595-SN74AUP1G74DCUR; Mouser Price/Stock: https://www.mouser.co.uk/ProductDetail/Texas-Instruments/SN74AUP1G74DCUR?qs=7kv20MEVUlht0wF4P3v%252Bhg%3D%3D; Arrow Part Number: SN74AUP1G74DCUR; Arrow Price/Stock: https://www.arrow.com/en/products/sn74aup1g74dcur/texas-instruments?region=nac
footprint SOT50P310X90-8N
pins: 1 CLK (in), 2 D (in), 3 ~{Q} (out), 4 GND (power), 5 Q (out), 6 ~{CLR} (in), 7 ~{PRE} (in), 8 VCC (power)

## SN74HCS08DR
designator IC?
Integrated Circuit; Manufacturer_Name: Texas Instruments; Manufacturer_Part_Number: SN74HCS08DR; Datasheet Link: https://www.ti.com/lit/ds/symlink/sn74hcs08.pdf?ts=1620753268442&ref_url=https%253A%252F%252Fwww.ti.com%252Fproduct%252FSN74HCS08; Height: 1.75mm; Mouser Part Number: 595-SN74HCS08DR; Mouser Price/Stock: https://www.mouser.co.uk/ProductDetail/Texas-Instruments/SN74HCS08DR?qs=7MVldsJ5UaxBpqBusi11%2Fg%3D%3D; Arrow Part Number: SN74HCS08DR; Arrow Price/Stock: https://www.arrow.com/en/products/sn74hcs08dr/texas-instruments?region=nac
footprint SOIC127P600X175-14N
part A pins: 1 1A, 2 1B, 3 1Y
part B pins: 4 2A, 5 2B, 6 2Y
part C pins: 8 3Y, 9 3A, 10 3B
part D pins: 11 4Y, 12 4A, 13 4B
part E pins: 7 GND, 14 VCC

## SN74HCS32DR
designator IC?
Integrated Circuit; Manufacturer_Name: Texas Instruments; Manufacturer_Part_Number: SN74HCS32DR; Datasheet Link: https://www.ti.com/lit/gpn/SN74HCS32; Height: 1.75mm; Mouser Part Number: 595-SN74HCS32DR; Mouser Price/Stock: https://www.mouser.co.uk/ProductDetail/Texas-Instruments/SN74HCS32DR?qs=7MVldsJ5Uay%2FXLwyM20zFg%3D%3D; Arrow Part Number: SN74HCS32DR; Arrow Price/Stock: https://www.arrow.com/en/products/sn74hcs32dr/texas-instruments?region=nac
footprint SOIC127P600X175-14N
part A pins: 1 1A, 2 1B, 3 1Y
part B pins: 4 2A, 5 2B, 6 2Y
part C pins: 8 3Y, 9 3A, 10 3B
part D pins: 11 4Y, 12 4A, 13 4B
part E pins: 7 GND, 14 VCC

## SN74HCS266DR
designator IC?
Integrated Circuit; Manufacturer_Name: Texas Instruments; Manufacturer_Part_Number: SN74HCS266DR; Datasheet Link: https://www.tij.co.jp/jp/lit/ds/symlink/sn74hcs266.pdf?ts=1620723134866&ref_url=https%253A%252F%252Fwww.tij.co.jp%252Fproduct%252Fjp%252FSN74HCS266; Height: 1.75mm; Mouser Part Number: 595-SN74HCS266DR; Mouser Price/Stock: https://www.mouser.co.uk/ProductDetail/Texas-Instruments/SN74HCS266DR?qs=sPbYRqrBIVmiO%2FUB1w01iQ%3D%3D
footprint SOIC127P600X175-14N
part A pins: 1 1A, 2 1B, 3 1Y
part B pins: 4 2Y, 5 2A, 6 2B
part C pins: 8 3A, 9 3B, 10 3Y
part D pins: 11 4Y, 12 4A, 13 4B
part E pins: 7 GND, 14 VCC

## SN74LV1T34QDCKRQ1
designator IC?
Integrated Circuit; Manufacturer_Name: Texas Instruments; Manufacturer_Part_Number: SN74LV1T34QDCKRQ1; Datasheet Link: https://www.ti.com/lit/ds/symlink/sn74lv1t34-q1.pdf?HQS=dis-mous-null-mousermode-dsf-pf-null-wwe&ts=1696349448486&ref_url=https%253A%252F%252Fwww.mouser.co.uk%252F; Height: 1.1mm; Mouser Part Number: 595-N74LV1T34QDCKRQ1; Mouser Price/Stock: https://www.mouser.co.uk/ProductDetail/Texas-Instruments/SN74LV1T34QDCKRQ1?qs=T%252BzbugeAwjhH%2Fd5HPTELsA%3D%3D; Arrow Part Number: SN74LV1T34QDCKRQ1; Arrow Price/Stock: https://www.arrow.com/en/products/sn74lv1t34qdckrq1/texas-instruments?utm_currency=USD&region=nac
footprint SOT65P210X110-5N
part A pins: 1 NC, 2 A, 4 Y
part B pins: 3 GND, 5 VCC (power)

## SN74LVC1G14DCKR
designator IC?
Integrated Circuit; Manufacturer_Name: Texas Instruments; Manufacturer_Part_Number: SN74LVC1G14DCKR; Datasheet Link: http://www.ti.com/lit/ds/symlink/sn74lvc1g14.pdf; Height: 1.1mm; Mouser Part Number: 595-SN74LVC1G14DCKR; Mouser Price/Stock: https://www.mouser.co.uk/ProductDetail/Texas-Instruments/SN74LVC1G14DCKR?qs=j%2FZo4ajzVJKuhrRdLjfZIw%3D%3D; Arrow Part Number: SN74LVC1G14DCKR; Arrow Price/Stock: https://www.arrow.com/en/products/sn74lvc1g14dckr/texas-instruments?region=nac
footprint SOT65P210X110-5N
part A pins: 1 NC, 2 A, 4 Y
part B pins: 3 GND, 5 VCC (power)

## SN74LVC1G17DCKR
designator U?
Undefined or Miscellaneous; Manufacturer_Name: Texas Instruments; Manufacturer_Part_Number: SN74LVC1G17DCKR; Datasheet Link: http://www.ti.com/lit/ds/symlink/sn74lvc1g17.pdf; Height: 1.1mm; Mouser Part Number: 595-SN74LVC1G17DCKR; Mouser Price/Stock: https://www.mouser.co.uk/ProductDetail/Texas-Instruments/SN74LVC1G17DCKR?qs=L5CvrNUdZioM7CGWSWVycQ%3D%3D; Arrow Part Number: SN74LVC1G17DCKR; Arrow Price/Stock: https://www.arrow.com/en/products/sn74lvc1g17dckr/texas-instruments?region=nac
footprint SOT65P210X110-5N
part A pins: 1 NC, 2 A, 4 Y
part B pins: 3 GND, 5 VCC (power)

## SQ1912AEEH-T1_GE3
designator Q?
MOSFET (N-Channel); Manufacturer_Name: Vishay; Manufacturer_Part_Number: SQ1912AEEH-T1_GE3; Datasheet Link: https://datasheet.datasheetarchive.com/originals/distributors/DKDS-23/453922.pdf; Height: 1.1mm; Mouser Part Number: 78-SQ1912AEEH-T1_GE3; Mouser Price/Stock: https://www.mouser.co.uk/ProductDetail/Vishay-Siliconix/SQ1912AEEH-T1_GE3?qs=Vcr9%2FL0R50iZVfRnXjQPMw%3D%3D; Arrow Part Number: SQ1912AEEH-T1_GE3; Arrow Price/Stock: https://www.arrow.com/en/products/sq1912aeeh-t1-ge3/vishay?region=nac
footprint SOT65P210X110-6N
part A pins: 1 S1, 2 G1, 6 D1
part B pins: 3 D2, 4 S2, 5 G2

## SRP3212A-3R3M
designator L?
Inductor; Manufacturer_Name: Bourns; Manufacturer_Part_Number: SRP3212A-3R3M; Datasheet Link: https://www.bourns.com/docs/product-datasheets/srp3212.pdf; Height: 1.2mm; Mouser Part Number: 652-SRP3212A-3R3M; Mouser Price/Stock: https://www.mouser.co.uk/ProductDetail/Bourns/SRP3212A-3R3M?qs=t7xnP681wgXp9Q%252BFP%252BQamQ%3D%3D; Arrow Part Number: SRP3212A-3R3M; Arrow Price/Stock: https://www.arrow.com/en/products/srp3212a-3r3m/bourns?region=nac
footprint INDC3225X120N
pins: 1, 2

## TBA_1-1212E
designator PS?
Power Supply; Manufacturer_Name: Traco Power; Manufacturer_Part_Number: TBA 1-1212E; Datasheet Link: https://tracopower.com/tba1e-datasheet/; Height: 10mm; Mouser Part Number: 495-TBA1-1212E; Mouser Price/Stock: https://www.mouser.co.uk/ProductDetail/TRACO-Power/TBA-1-1212E?qs=byeeYqUIh0PXTcqYv6W9%252BA%3D%3D
footprint TBA11212E
pins: 1 +VIN(VCC), 2 -VIN(GND), 4 -VOUT, 6 +VOUT

## TBA_1-1212HI
designator PS?
Power Supply; Manufacturer_Name: Traco Power; Manufacturer_Part_Number: TBA 1-1212HI; Datasheet Link: https://tracopower.com/tba1hi-datasheet/; Height: 10.35mm; Mouser Part Number: 495-TBA1-1212HI; Mouser Price/Stock: https://www.mouser.co.uk/ProductDetail/TRACO-Power/TBA-1-1212HI?qs=byeeYqUIh0N5pnK9BA%252B2og%3D%3D
footprint TBA11212HI
pins: 1 VIN, 2 GND, 5 -VO, 7 +VO

## TEA_1-0505HI
designator PS?
Power Supply; Manufacturer_Name: Traco Power; Manufacturer_Part_Number: TEA 1-0505HI; Datasheet Link: https://tracopower.com/tea1hi-datasheet/; Height: 10.35mm; Mouser Part Number: 495-TEA1-0505HI; Mouser Price/Stock: https://www.mouser.co.uk/ProductDetail/TRACO-Power/TEA-1-0505HI?qs=GedFDFLaBXGYgii%2FlopLEg%3D%3D; Arrow Part Number: TEA 1-0505HI; Arrow Price/Stock: https://www.arrow.com/en/products/tea-1-0505hi/traco-electronic-ag?region=europe
footprint TEA10505HI
pins: 1 +VIN_(VCC), 2 -VIN_(GND), 5 -VOUT, 7 +VOUT

## TLC59116ITPWRQ1
designator LED?
LED; Manufacturer_Name: Texas Instruments; Manufacturer_Part_Number: TLC59116ITPWRQ1; Datasheet Link: http://www.ti.com/lit/gpn/tlc59116-q1; Height: 1.2mm; Mouser Part Number: 595-TLC59116ITPWRQ1; Mouser Price/Stock: https://www.mouser.co.uk/ProductDetail/Texas-Instruments/TLC59116ITPWRQ1?qs=f4l5qYp%2Fy%252B5Jo7XR1StMGg%3D%3D; Arrow Part Number: TLC59116ITPWRQ1; Arrow Price/Stock: https://www.arrow.com/en/products/tlc59116itpwrq1/texas-instruments?region=nac
footprint SOP65P640X120-28N
pins: 1 REXT (in), 2 A0 (in), 3 A1 (in), 4 A2 (in), 5 A3 (in), 6 ~{OUT0} (out), 7 ~{OUT1} (out), 8 ~{OUT2} (out), 9 ~{OUT3} (out), 10 GND_1 (power), 11 ~{OUT4} (out), 12 ~{OUT5} (out), 13 ~{OUT6} (out), 14 ~{OUT7} (out), 15 ~{OUT8} (out), 16 ~{OUT9} (out), 17 ~{OUT10} (out), 18 ~{OUT11} (out), 19 GND_2 (power), 20 ~{OUT12} (out), 21 ~{OUT13} (out), 22 ~{OUT14} (out), 23 ~{OUT15} (out), 24 GND_3 (power), 25 ~{RESET} (in), 26 SCL (in), 27 SDA (io), 28 VCC (power)

## TLP185_SE
designator IC?
Integrated Circuit; Manufacturer_Name: Toshiba; Manufacturer_Part_Number: TLP185(SE; Datasheet Link: https://componentsearchengine.com/Datasheets/2/TLP185(SE.pdf; Height: 2.3mm; Mouser Part Number: 757-TLP185SE; Mouser Price/Stock: https://www.mouser.co.uk/ProductDetail/Toshiba/TLP185SE?qs=d%252BuLRCbWxrrkgyGhtZFeCw%3D%3D; Arrow Part Number: TLP185(SE; Arrow Price/Stock: https://www.arrow.com/en/products/tlp185-se/toshiba?region=nac
footprint TLP185SE
pins: 1 A, 3 K, 4 E, 6 C

## TLP185_TPL,SE_T
designator Q?
Phototransistor; Manufacturer_Name: Toshiba; Manufacturer_Part_Number: TLP185(TPL,SE(T; Datasheet Link: http://toshiba.semicon-storage.com/info/docget.jsp?did=14111&prodName=TLP185(SE; Height: 2mm; Arrow Part Number: TLP185(TPL,SE(T; Arrow Price/Stock: https://www.arrow.com/en/products/tlp185-tplse-t/toshiba?region=europe
footprint TLP266J
pins: 1 A, 3 K, 4 E, 6 C

## TLP185_V4GRTR,SE
designator Q?
Phototransistor; Manufacturer_Name: Toshiba; Manufacturer_Part_Number: TLP185(V4GRTR,SE; Datasheet Link: https://toshiba.semicon-storage.com/info/TLP185%28SE_datasheet_en_20191118.pdf?did=14111&prodName=TLP185(SE; Height: 2.3mm; Mouser Part Number: 757-TLP185V4GRTRSE; Mouser Price/Stock: https://www.mouser.co.uk/ProductDetail/Toshiba/TLP185V4GRTRSE?qs=ulEaXIWI0c9v1Qh06rOLwQ%3D%3D
footprint TLP185V4GRTRSE
pins: 1 ANODE, 3 CATHODE, 4 EMITTER, 6 COLLECTOR

## TLV1812QDRQ1
designator IC?
Integrated Circuit; Manufacturer_Name: Texas Instruments; Manufacturer_Part_Number: TLV1812QDRQ1; Datasheet Link: https://www.ti.com/lit/gpn/tlv1812-q1; Height: 1.75mm; Mouser Part Number: 595-TLV1812QDRQ1; Mouser Price/Stock: https://www.mouser.co.uk/ProductDetail/Texas-Instruments/TLV1812QDRQ1?qs=9vOqFld9vZWMuC0kz%2F%2Fvkg%3D%3D; Arrow Part Number: TLV1812QDRQ1; Arrow Price/Stock: https://www.arrow.com/en/products/tlv1812qdrq1/texas-instruments?region=nac
footprint SOIC127P600X175-8N
part A pins: 4 V-, 8 V+
part B pins: 1 OUT1, 2 IN1-, 3 IN1+
part C pins: 5 IN2+, 6 IN2-, 7 OUT2

## TPS259470LRPWR
designator U?
No Description Available; Mfr_Name: Texas Instruments; TYPE: TYPE; RefDes: RefDes
footprint RPW0010A-MFG
pins: 1 EN_UVLO (in), 2 OVLO (in), 3 AUXOFF (out), 4 _FLT (in), 5 IN (power), 6 OUT (power), 7 dVdt (out), 8 GND (power), 9 ILM (out), 10 ITIMER (out)

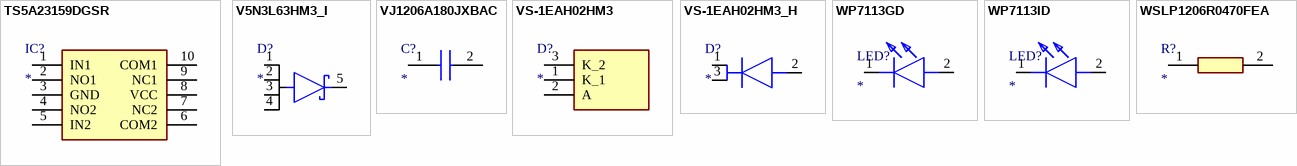
[diagram p6: symbols TS5A23159DGSR to WSLP1206R0470FEA]

## TS5A23159DGSR
designator IC?
Integrated Circuit; Manufacturer_Name: Texas Instruments; Manufacturer_Part_Number: TS5A23159DGSR; Datasheet Link: http://www.ti.com/lit/gpn/ts5a23159; Height: 1.1mm; Mouser Part Number: 595-TS5A23159DGSR; Mouser Price/Stock: https://www.mouser.co.uk/ProductDetail/Texas-Instruments/TS5A23159DGSR?qs=BBezV1N05%2FsTd3NWlbW5BA%3D%3D; Arrow Part Number: TS5A23159DGSR; Arrow Price/Stock: https://www.arrow.com/en/products/ts5a23159dgsr/texas-instruments?region=nac
footprint SOP50P490X110-10N
pins: 1 IN1, 2 NO1, 3 GND, 4 NO2, 5 IN2, 6 COM2, 7 NC2, 8 VCC, 9 NC1, 10 COM1

## V5N3L63HM3_I
designator D?
Schottky Diode; Manufacturer_Name: Vishay; Manufacturer_Part_Number: V5N3L63HM3/I; Datasheet Link: https://www.vishay.com/docs/98568/v5n3l63.pdf; Height: 0.98mm; Mouser Part Number: 625-V5N3L63HM3/I; Mouser Price/Stock: https://www.mouser.co.uk/ProductDetail/Vishay/V5N3L63HM3-I?qs=jRuttqqUwMRs1DuGCeNfag%3D%3D
footprint V5N3L63HM3I
pins: 1 ANODE1, 2 ANODE2, 3 ANODE3, 4 ANODE4, 5 CATHODE

## VJ1206A180JXBAC
designator C?
Capacitor; Manufacturer_Name: Vishay; Manufacturer_Part_Number: VJ1206A180JXBAC; Datasheet Link: http://www.vishay.com/docs/45200/vjhirelseries.pdf; Height: 1.7mm; Mouser Part Number: 77-VJ1206A180JXBAC; Mouser Price/Stock: https://www.mouser.co.uk/ProductDetail/Vishay-Vitramon/VJ1206A180JXBAC?qs=RECgZY%252BK1xJTM0ZV5Z5hXA%3D%3D
footprint CAPC3216X170N
pins: 1, 2

## VS-1EAH02HM3
designator D?
Diode; Manufacturer_Name: Vishay; Manufacturer_Part_Number: VS-1EAH02HM3; Datasheet Link: https://www.vishay.com/docs/97067/vs-1eah02hm3.pdf; Height: 0.98mm
footprint V7NM153M3I
pins: 1 K_1, 2 A, 3 K_2

## VS-1EAH02HM3_H
designator D?
Diode; Manufacturer_Name: Vishay; Manufacturer_Part_Number: VS-1EAH02HM3/H; Datasheet Link: https://www.vishay.com/docs/97067/vs-1eah02hm3.pdf; Height: 0.98mm; Mouser Part Number: 78-VS-1EAH02HM3/H; Mouser Price/Stock: https://www.mouser.co.uk/ProductDetail/Vishay/VS-1EAH02HM3-H?qs=amGC7iS6iy%252BHSb8B1G2CRQ%3D%3D
footprint V5NM103HM3I
pins: 1 K, 2 A, 3 K_2

## WP7113GD
designator LED?
LED; Manufacturer_Name: Kingbright; Manufacturer_Part_Number: WP7113GD; Datasheet Link: https://www.kingbrightusa.com/images/catalog/SPEC/WP7113GD.pdf; Height: 9.85mm; Mouser Part Number: 604-WP7113GD; Mouser Price/Stock: https://www.mouser.co.uk/ProductDetail/Kingbright/WP7113GD?qs=pz0eHrWKk7njL1kTYKysuw%3D%3D; Arrow Part Number: WP7113GD; Arrow Price/Stock: https://www.arrow.com/en/products/wp7113gd/kingbright
footprint WP7113GD
pins: 1 K, 2 A